# EAGLE library part SOC_RK3568 (library !GPLIB_ACTIVE)
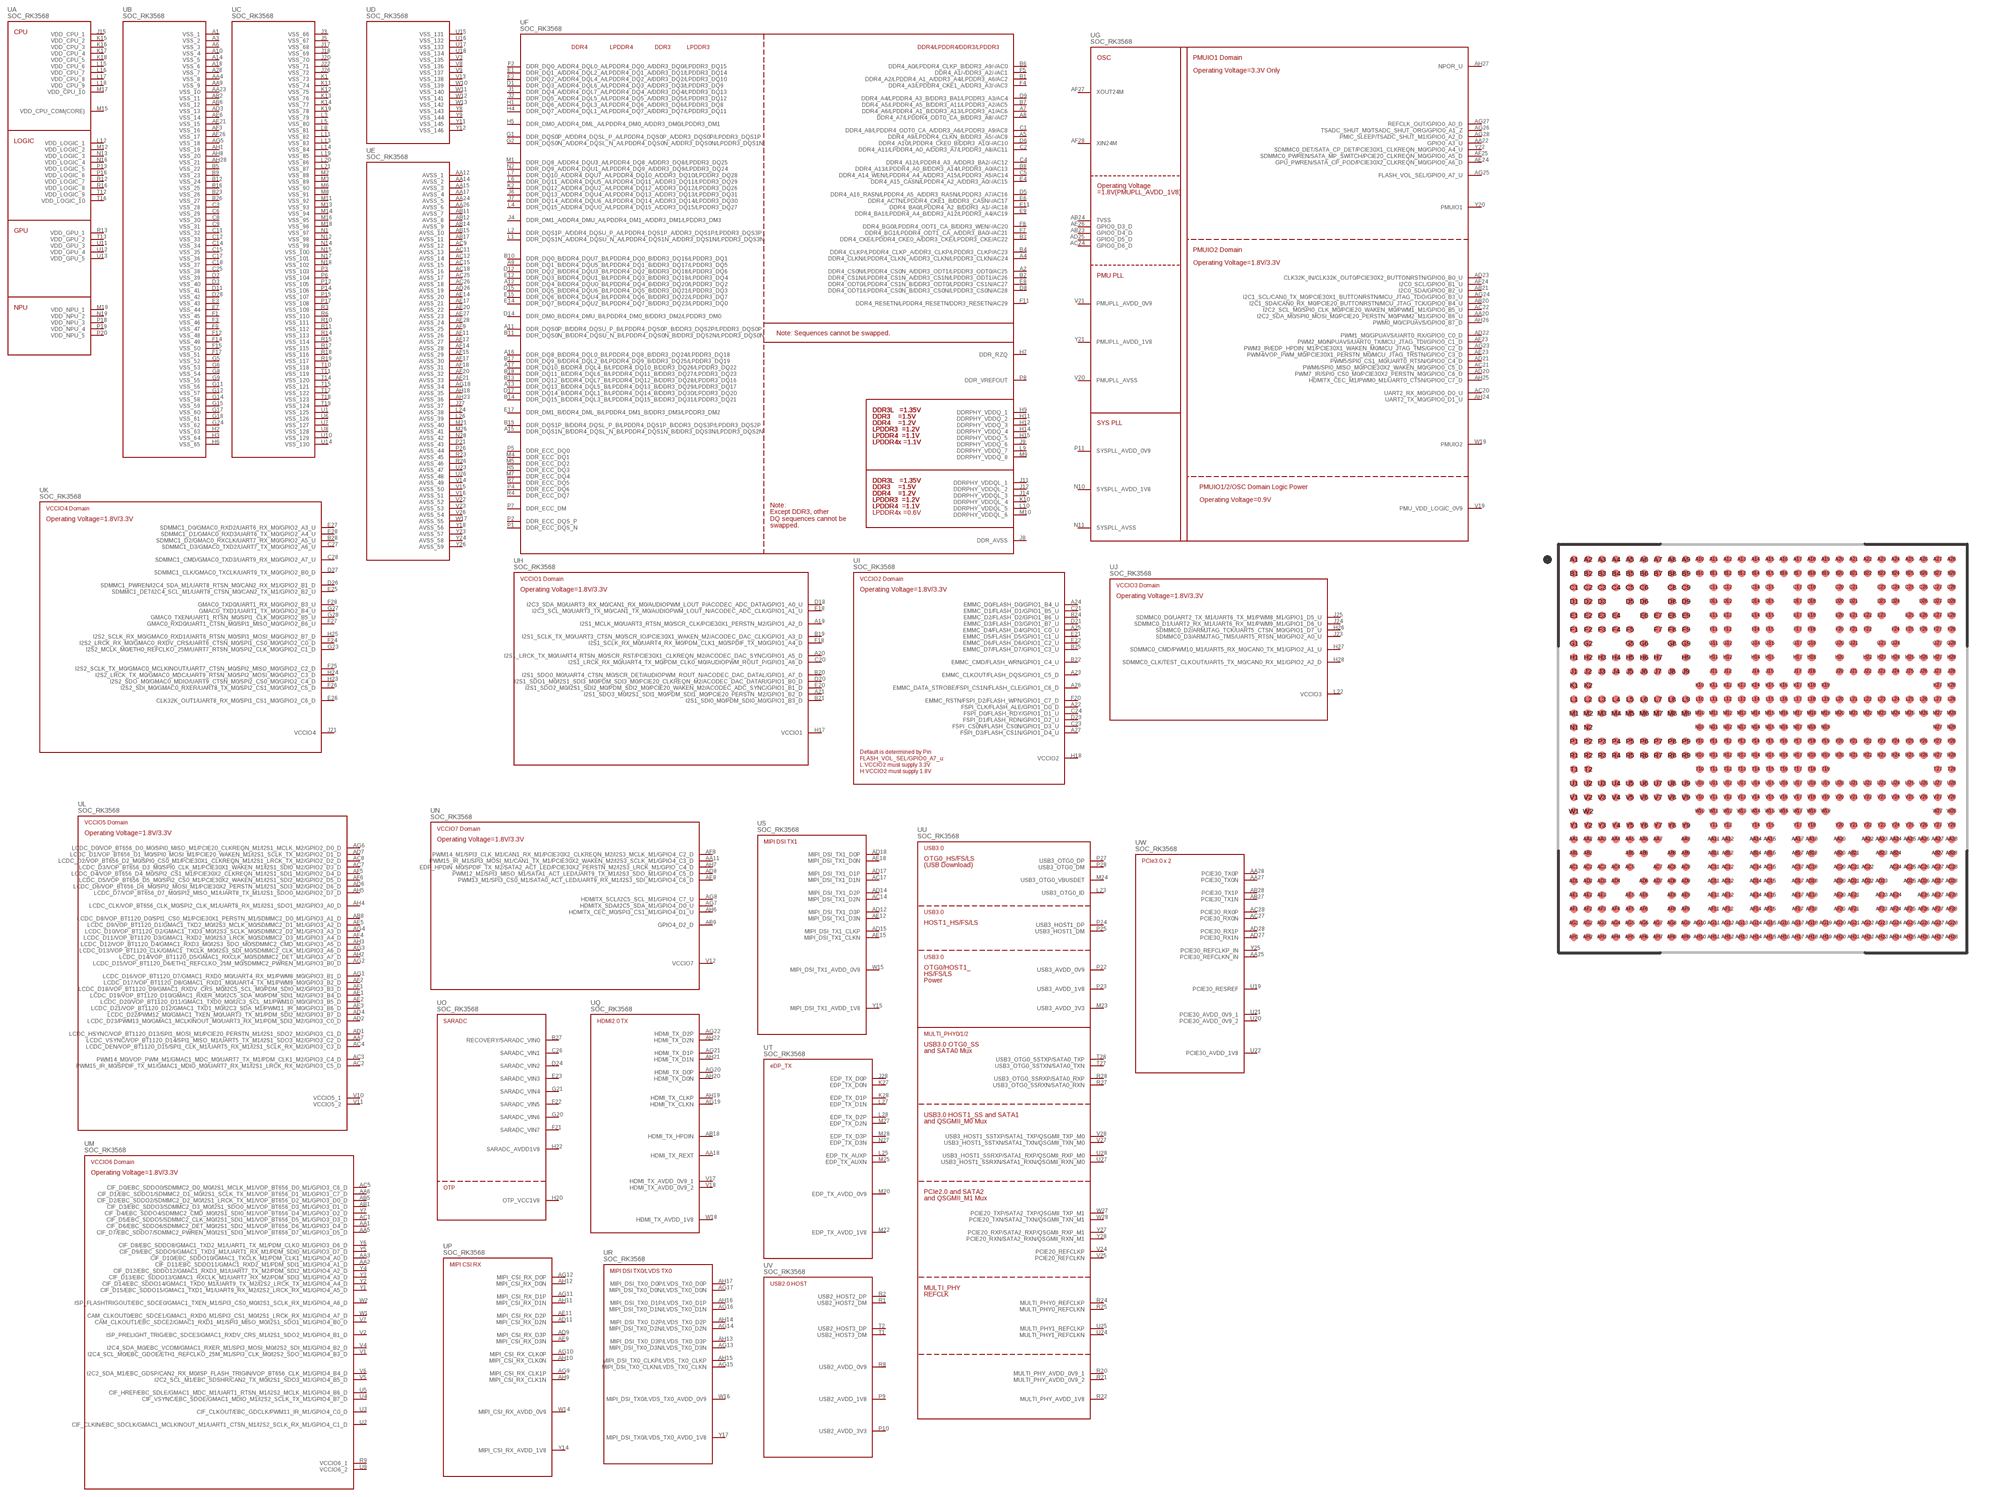
[diagram p128: symbol with the pads of BGA636C65P28X28_1900X1900X168; footprint BGA636C65P28X28_1900X1900X168]

Designator prefix U; gates A=RK3568-A B=RK3568-B C=RK3568-C D=RK3568-D E=RK3568-E F=RK3568-F G=RK3568-G H=RK3568-H I=RK3568-I J=RK3568-J L=RK3568-L M=RK3568-M N=RK3568-N O=RK3568-O P=RK3568-P Q=RK3568-Q R=RK3568-R S=RK3568-S T=RK3568-T U=RK3568-U V=RK3568-V W=RK3568-W K=RK3568-K

## SOC_RK3568_RK3568  [BGA636C65P28X28_1900X1900X168]
A1  B:VSS_1  pwr
A2  F:DDR4_CS0N/LPDDR4_CS0N_A/DDR3_ODT1/LPDDR3_ODT0/AC25
A3  B:VSS_2  pwr
A4  F:DDR4_CLKN/LPDDR4_CLKN_A/DDR3_CLKN/LPDDR3_CLKN/AC24
A5  F:DDR4_A9/LPDDR4_CLKN_B/DDR3_A5/-/AC9
A6  B:VSS_3  pwr
A7  F:DDR4_A6/LPDDR4_A1_B/DDR3_A13/LPDDR3_A1/AC6
A8  F:DDR4_A7/LPDDR4_ODT0_CA_B/DDR3_A8/-/AC7
A9  F:DDR_DQ1_B/DDR4_DQU5_B/LPDDR4_DQ1_B/DDR3_DQ17/LPDDR3_DQ5
A10  B:VSS_4  pwr
A11  F:DDR_DQS0P_B/DDR4_DQSU_P_B/LPDDR4_DQS0P_B/DDR3_DQS2P/LPDDR3_DQS0P
A12  F:DDR_DQ4_B/DDR4_DQU0_B/LPDDR4_DQ4_B/DDR3_DQ20/LPDDR3_DQ2
A13  F:DDR_DQ13_B/DDR4_DQL5_B/LPDDR4_DQ13_B/DDR3_DQ29/LPDDR3_DQ17
A14  B:VSS_5  pwr
A15  F:DDR_DQS1N_B/DDR4_DQSL_N_B/LPDDR4_DQS1N_B/DDR3_DQS3N/LPDDR3_DQS2N
A16  F:DDR_DQ8_B/DDR4_DQL0_B/LPDDR4_DQ8_B/DDR3_DQ24/LPDDR3_DQ18
A17  F:DDR_DQ10_B/DDR4_DQL4_B/LPDDR4_DQ10_B/DDR3_DQ26/LPDDR3_DQ22
A18  B:VSS_6  pwr
A19  H:I2S1_MCLK_M0/UART3_RTSN_M0/SCR_CLK/PCIE30X1_PERSTN_M2/GPIO1_A2_D
A20  H:I2S1_LRCK_TX_M0/UART4_RTSN_M0/SCR_RST/PCIE30X1_CLKREQN_M2/ACODEC_DAC_SYNC/GPIO1_A5_D
A21  H:I2S1_SDO3_M0/I2S1_SDI1_M0/PDM_SDI1_M0/PCIE20_PERSTN_M2/GPIO1_B2_D
A22  I:FSPI_CLK/FLASH_ALE/GPIO1_D0_D
A23  I:EMMC_CLKOUT/FLASH_DQS/GPIO1_C5_D
A24  I:EMMC_D0/FLASH_D0/GPIO1_B4_U
A25  I:EMMC_D4/FLASH_D4/GPIO1_C0_U
A26  I:EMMC_DATA_STROBE/FSPI_CS1N/FLASH_CLE/GPIO1_C6_D
A27  I:FSPI_D3/FLASH_CS1N/GPIO1_D4_U
A28  B:VSS_7  pwr
AA1  M:CIF_D6/EBC_SDDO6/SDMMC2_DET_M0/I2S1_SDI2_M1/VOP_BT656_D6_M1/GPIO3_D4_D
AA2  M:CIF_D11/EBC_SDDO11/GMAC1_RXD2_M1/PDM_SDI1_M1/GPIO4_A1_D
AA3  M:CIF_D10/EBC_SDDO10/GMAC1_TXCLK_M1/PDM_CLK1_M1/GPIO4_A0_D
AA4  B:VSS_8  pwr
AA5  M:CIF_D7/EBC_SDDO7/SDMMC2_PWREN_M0/I2S1_SDI3_M1/VOP_BT656_D7_M1/GPIO3_D5_D
AA6  M:CIF_D1/EBC_SDDO1/SDMMC2_D1_M0/I2S1_SCLK_TX_M1/VOP_BT656_D1_M1/GPIO3_C7_D
AA7  L:LCDC_VSYNC/VOP_BT1120_D14/SPI1_MISO_M1/UART5_TX_M1/I2S1_SDO3_M2/GPIO3_C2_D
AA9  B:VSS_9  pwr
AA11  N:PWM15_IR_M1/SPI3_MOSI_M1/CAN1_TX_M1/PCIE30X2_WAKEN_M2/I2S3_SCLK_M1/GPIO4_C3_D
AA12  E:AVSS_1  pwr
AA14  E:AVSS_2  pwr
AA15  E:AVSS_3  pwr
AA17  E:AVSS_4  pwr
AA18  Q:HDMI_TX_REXT
AA20  G:I2C2_SDA_M0/SPI0_MOSI_M0/PCIE20_PERSTN_M0/PWM2_M1/GPIO0_B6_U
AA22  G:GPIO0_A3_U
AA23  B:VSS_10  pwr
AA24  E:AVSS_5  pwr
AA25  W:PCIE30_REFCLKN_IN
AA26  E:AVSS_6  pwr
AA27  W:PCIE30_TX0N
AA28  W:PCIE30_TX0P
AB1  M:CIF_D3/EBC_SDDO3/SDMMC2_D3_M0/I2S1_SDO0_M1/VOP_BT656_D3_M1/GPIO3_D1_D
AB2  B:VSS_11  pwr
AB5  M:CIF_D2/EBC_SDDO2/SDMMC2_D2_M0/I2S1_LRCK_TX_M1/VOP_BT656_D2_M1/GPIO3_D0_D
AB6  B:VSS_12  pwr
AB8  L:LCDC_D8/VOP_BT1120_D0/SPI1_CS0_M1/PCIE30X1_PERSTN_M1/SDMMC2_D0_M1/GPIO3_A1_D
AB9  N:GPIO4_D2_D
AB11  E:AVSS_7  pwr
AB12  E:AVSS_8  pwr
AB14  E:AVSS_9  pwr
AB15  E:AVSS_10  pwr
AB17  E:AVSS_11  pwr
AB18  Q:HDMI_TX_HPDIN
AB20  G:I2C1_SDA/CAN0_RX_M0/PCIE20_BUTTONRSTN/MCU_JTAG_TCK/GPIO0_B4_U
AB21  G:I2C0_SDA/GPIO0_B2_U
AB23  G:GPIO0_D4_D
AB24  G:TVSS  pwr
AB27  W:PCIE30_TX1N
AB28  W:PCIE30_TX1P
AC1  M:CIF_D5/EBC_SDDO5/SDMMC2_CLK_M0/I2S1_SDI1_M1/VOP_BT656_D5_M1/GPIO3_D3_D
AC2  L:PWM15_IR_M0/SPDIF_TX_M1/GMAC1_MDIO_M0/UART7_RX_M1/I2S1_LRCK_RX_M2/GPIO3_C5_D
AC3  L:PWM14_M0/VOP_PWM_M1/GMAC1_MDC_M0/UART7_TX_M1/PDM_CLK1_M2/GPIO3_C4_D
AC4  L:LCDC_DEN/VOP_BT1120_D15/SPI1_CLK_M1/UART5_RX_M1/I2S1_SCLK_RX_M2/GPIO3_C3_D
AC5  M:CIF_D0/EBC_SDDO0/SDMMC2_D0_M0/I2S1_MCLK_M1/VOP_BT656_D0_M1/GPIO3_C6_D
AC7  L:LCDC_D3/VOP_BT656_D3_M0/SPI0_CLK_M1/PCIE30X1_WAKEN_M1/I2S1_SDI0_M2/GPIO2_D3_D
AC8  L:LCDC_D2/VOP_BT656_D2_M0/SPI0_CS0_M1/PCIE30X1_CLKREQN_M1/I2S1_LRCK_TX_M2/GPIO2_D2_D
AC9  E:AVSS_12  pwr
AC11  E:AVSS_13  pwr
AC12  E:AVSS_14  pwr
AC14  S:MIPI_DSI_TX1_D2N
AC15  E:AVSS_15  pwr
AC17  S:MIPI_DSI_TX1_D1N
AC18  E:AVSS_16  pwr
AC20  G:UART2_RX_M0/GPIO0_D0_U
AC21  G:PWM6/SPI0_MISO_M0/PCIE30X2_WAKEN_M0/GPIO0_C5_D
AC22  G:I2C2_SCL_M0/SPI0_CLK_M0/PCIE20_WAKEN_M0/PWM1_M1/GPIO0_B5_U
AC24  G:GPIO0_D6_D
AC25  E:AVSS_17  pwr
AC26  E:AVSS_18  pwr
AC27  W:PCIE30_RX0N
AC28  W:PCIE30_RX0P
AD1  L:LCDC_HSYNC/VOP_BT1120_D13/SPI1_MOSI_M1/PCIE20_PERSTN_M1/I2S1_SDO2_M2/GPIO3_C1_D
AD2  L:LCDC_D23/PWM13_M0/GMAC1_MCLKINOUT_M0/UART3_RX_M1/PDM_SDI3_M2/GPIO3_C0_D
AD3  B:VSS_13  pwr
AD4  L:LCDC_D22/PWM12_M0/GMAC1_TXEN_M0/UART3_TX_M1/PDM_SDI2_M2/GPIO3_B7_D
AD6  L:LCDC_D6/VOP_BT656_D6_M0/SPI2_MOSI_M1/PCIE30X2_PERSTN_M1/I2S1_SDI3_M2/GPIO2_D6_D
AD7  L:LCDC_D1/VOP_BT656_D1_M0/SPI0_MOSI_M1/PCIE20_WAKEN_M1/I2S1_SCLK_TX_M2/GPIO2_D1_D
AD8  N:PWM12_M1/SPI3_MISO_M1/SATA1_ACT_LED/UART9_TX_M1/I2S3_SDO_M1/GPIO4_C5_D
AD9  P:MIPI_CSI_RX_D3P
AD11  P:MIPI_CSI_RX_D2N
AD12  S:MIPI_DSI_TX1_D3P
AD14  S:MIPI_DSI_TX1_D2P
AD15  S:MIPI_DSI_TX1_CLKP
AD17  S:MIPI_DSI_TX1_D1P
AD18  S:MIPI_DSI_TX1_D0P
AD20  G:PWM7_IR/SPI0_CS0_M0/PCIE30X2_PERSTN_M0/GPIO0_C6_D
AD21  G:PWM5/SPI0_CS1_M0/UART0_RTSN/GPIO0_C4_D
AD22  G:PWM1_M0/GPUAVS/UART0_RX/GPIO0_C0_D
AD23  G:CLK32K_IN/CLK32K_OUT0/PCIE30X2_BUTTONRSTN/GPIO0_B0_U
AD25  G:GPIO0_D5_D
AD26  E:AVSS_19  pwr
AD27  W:PCIE30_RX1N
AD28  W:PCIE30_RX1P
AE1  L:LCDC_D19/VOP_BT1120_D10/GMAC1_RXER_M0/I2C5_SDA_M0/PDM_SDI1_M2/GPIO3_B4_D
AE2  L:LCDC_D20/VOP_BT1120_D11/GMAC1_TXD0_M0/I2C3_SCL_M1/PWM10_M0/GPIO3_B5_D
AE3  L:LCDC_D21/VOP_BT1120_D12/GMAC1_TXD1_M0/I2C3_SDA_M1/PWM11_IR_M0/GPIO3_B6_D
AE5  L:LCDC_D9/VOP_BT1120_D1/GMAC1_TXD2_M0/I2S3_MCLK_M0/SDMMC2_D1_M1/GPIO3_A2_D
AE6  B:VSS_14  pwr
AE8  N:PWM13_M1/SPI3_CS0_M1/SATA0_ACT_LED/UART9_RX_M1/I2S3_SDI_M1/GPIO4_C6_D
AE9  P:MIPI_CSI_RX_D3N
AE11  P:MIPI_CSI_RX_D2P
AE12  S:MIPI_DSI_TX1_D3N
AE14  E:AVSS_20  pwr
AE15  S:MIPI_DSI_TX1_CLKN
AE17  E:AVSS_21  pwr
AE18  S:MIPI_DSI_TX1_D0N
AE20  E:AVSS_22  pwr
AE21  B:VSS_15  pwr
AE23  G:PWM4/VOP_PWM_M0/PCIE30X1_PERSTN_M0/MCU_JTAG_TRSTN/GPIO0_C3_D
AE24  G:GPU_PWREN/SATA_CP_POD/PCIE30X2_CLKREQN_M0/GPIO0_A6_D
AE26  G:GPIO0_D3_D
AE27  E:AVSS_23  pwr
AE28  E:AVSS_24  pwr
AF1  L:LCDC_D18/VOP_BT1120_D9/GMAC1_RXDV_CRS_M0/I2C5_SCL_M0/PDM_SDI0_M2/GPIO3_B3_D
AF2  L:LCDC_D17/VOP_BT1120_D8/GMAC1_RXD1_M0/UART4_TX_M1/PWM9_M0/GPIO3_B2_D
AF3  B:VSS_16  pwr
AF4  L:LCDC_D11/VOP_BT1120_D3/GMAC1_RXD2_M0/I2S3_LRCK_M0/SDMMC2_D3_M1/GPIO3_A4_D
AF5  L:LCDC_D4/VOP_BT656_D4_M0/SPI2_CS1_M1/PCIE30X2_CLKREQN_M1/I2S1_SDI1_M2/GPIO2_D4_D
AF6  L:LCDC_D5/VOP_BT656_D5_M0/SPI2_CS0_M1/PCIE30X2_WAKEN_M1/I2S1_SDI2_M2/GPIO2_D5_D
AF8  N:PWM14_M1/SPI3_CLK_M1/CAN1_RX_M1/PCIE30X2_CLKREQN_M2/I2S3_MCLK_M1/GPIO4_C2_D
AF9  E:AVSS_25  pwr
AF11  E:AVSS_26  pwr
AF12  E:AVSS_27  pwr
AF14  E:AVSS_28  pwr
AF15  E:AVSS_29  pwr
AF17  E:AVSS_30  pwr
AF18  E:AVSS_31  pwr
AF20  E:AVSS_32  pwr
AF21  E:AVSS_33  pwr
AF23  G:PWM2_M0/NPUAVS/UART0_TX/MCU_JTAG_TDI/GPIO0_C1_D
AF24  G:I2C0_SCL/GPIO0_B1_U
AF25  G:SDMMC0_PWREN/SATA_MP_SWITCH/PCIE20_CLKREQN_M0/GPIO0_A5_D
AF26  B:VSS_17  pwr
AF27  G:XOUT24M
AF28  G:XIN24M
AG1  L:LCDC_D16/VOP_BT1120_D7/GMAC1_RXD0_M0/UART4_RX_M1/PWM8_M0/GPIO3_B1_D
AG2  L:LCDC_D15/VOP_BT1120_D6/ETH1_REFCLKO_25M_M0/SDMMC2_PWREN_M1/GPIO3_B0_D
AG3  L:LCDC_D13/VOP_BT1120_CLK/GMAC1_TXCLK_M0/I2S3_SDI_M0/SDMMC2_CLK_M1/GPIO3_A6_D
AG4  L:LCDC_D10/VOP_BT1120_D2/GMAC1_TXD3_M0/I2S3_SCLK_M0/SDMMC2_D2_M1/GPIO3_A3_D
AG5  B:VSS_18  pwr
AG6  L:LCDC_D0/VOP_BT656_D0_M0/SPI0_MISO_M1/PCIE20_CLKREQN_M1/I2S1_MCLK_M2/GPIO2_D0_D
AG7  N:HDMITX_SDA/I2C5_SDA_M1/GPIO4_D0_U
AG8  N:HDMITX_SCL/I2C5_SCL_M1/GPIO4_C7_U
AG9  P:MIPI_CSI_RX_CLK1P
AG10  P:MIPI_CSI_RX_CLK0P
AG11  P:MIPI_CSI_RX_D1P
AG12  P:MIPI_CSI_RX_D0P
AG13  R:MIPI_DSI_TX0_D3N/LVDS_TX0_D3N
AG14  R:MIPI_DSI_TX0_D2N/LVDS_TX0_D2N
AG15  R:MIPI_DSI_TX0_CLKN/LVDS_TX0_CLKN
AG16  R:MIPI_DSI_TX0_D1N/LVDS_TX0_D1N
AG17  R:MIPI_DSI_TX0_D0N/LVDS_TX0_D0N
AG18  E:AVSS_34  pwr
AG19  Q:HDMI_TX_CLKN
AG20  Q:HDMI_TX_D0P
AG21  Q:HDMI_TX_D1P
AG22  Q:HDMI_TX_D2P
AG23  G:PWM3_IR/EDP_HPDIN_M1/PCIE30X1_WAKEN_M0/MCU_JTAG_TMS/GPIO0_C2_D
AG24  G:I2C1_SCL/CAN0_TX_M0/PCIE30X1_BUTTONRSTN/MCU_JTAG_TDO/GPIO0_B3_U
AG25  G:FLASH_VOL_SEL/GPIO0_A7_U
AG26  G:TSADC_SHUT_M0/TSADC_SHUT_ORG/GPIO0_A1_Z
AG27  G:REFCLK_OUT/GPIO0_A0_D
AG28  G:PMIC_SLEEP/TSADC_SHUT_M1/GPIO0_A2_D
AH1  B:VSS_19  pwr
AH2  L:LCDC_D14/VOP_BT1120_D5/GMAC1_RXCLK_M0/SDMMC2_DET_M1/GPIO3_A7_D
AH3  L:LCDC_D12/VOP_BT1120_D4/GMAC1_RXD3_M0/I2S3_SDO_M0/SDMMC2_CMD_M1/GPIO3_A5_D
AH4  L:LCDC_CLK/VOP_BT656_CLK_M0/SPI2_CLK_M1/UART8_RX_M1/I2S1_SDO1_M2/GPIO3_A0_D
AH5  L:LCDC_D7/VOP_BT656_D7_M0/SPI2_MISO_M1/UART8_TX_M1/I2S1_SDO0_M2/GPIO2_D7_D
AH6  N:HDMITX_CEC_M0/SPI3_CS1_M1/GPIO4_D1_U
AH7  N:EDP_HPDIN_M0/SPDIF_TX_M2/SATA2_ACT_LED/PCIE30X2_PERSTN_M2/I2S3_LRCK_M1/GPIO_C4_D
AH8  B:VSS_20  pwr
AH9  P:MIPI_CSI_RX_CLK1N
AH10  P:MIPI_CSI_RX_CLK0N
AH11  P:MIPI_CSI_RX_D1N
AH12  P:MIPI_CSI_RX_D0N
AH13  R:MIPI_DSI_TX0_D3P/LVDS_TX0_D3P
AH14  R:MIPI_DSI_TX0_D2P/LVDS_TX0_D2P
AH15  R:MIPI_DSI_TX0_CLKP/LVDS_TX0_CLKP
AH16  R:MIPI_DSI_TX0_D1P/LVDS_TX0_D1P
AH17  R:MIPI_DSI_TX0_D0P/LVDS_TX0_D0P
AH18  E:AVSS_35  pwr
AH19  Q:HDMI_TX_CLKP
AH20  Q:HDMI_TX_D0N
AH21  Q:HDMI_TX_D1N
AH22  Q:HDMI_TX_D2N
AH23  E:AVSS_36  pwr
AH24  G:UART2_TX_M0/GPIO0_D1_U
AH25  G:HDMITX_CEC_M1/PWM0_M1/UART0_CTSN/GPIO0_C7_D
AH26  G:PWM0_M0/CPUAVS/GPIO0_B7_D
AH27  G:NPOR_U
AH28  B:VSS_21  pwr
B1  F:DDR4_A2/LPDDR4_A1_A/DDR3_A4/LPDDR3_A6/AC2
B2  F:DDR4_CS1N/LPDDR4_CS1N_A/DDR3_CS1N/LPDDR3_ODT1/AC26
B3  F:DDR4_CKE/LPDDR4_CKE0_A/DDR3_CKE/LPDDR3_CKE/AC22
B4  F:DDR4_CLKP/LPDDR4_CLKP_A/DDR3_CLKP/LPDDR3_CLKP/AC23
B5  B:VSS_22  pwr
B6  F:DDR4_A0/LPDDR4_CLKP_B/DDR3_A9/-/AC0
B7  F:DDR4_A5/LPDDR4_A5_B/DDR3_A11/LPDDR3_A2/AC5
B8  F:DDR4_A13/LPDDR4_A0_B/DDR3_A14/LPDDR3_A0/AC13
B9  B:VSS_23  pwr
B10  F:DDR_DQ0_B/DDR4_DQU7_B/LPDDR4_DQ0_B/DDR3_DQ16/LPDDR3_DQ1
B11  F:DDR_DQS0N_B/DDR4_DQSU_N_B/LPDDR4_DQS0N_B/DDR3_DQS2N/LPDDR3_DQS0N
B12  B:VSS_24  pwr
B13  F:DDR_DQ12_B/DDR4_DQL7_B/LPDDR4_DQ12_B/DDR3_DQ28/LPDDR3_DQ16
B14  F:DDR_DQ15_B/DDR4_DQL3_B/LPDDR4_DQ15_B/DDR3_DQ31/LPDDR3_DQ21
B15  F:DDR_DQS1P_B/DDR4_DQSL_P_B/LPDDR4_DQS1P_B/DDR3_DQS3P/LPDDR3_DQS2P
B16  B:VSS_25  pwr
B17  F:DDR_DQ9_B/DDR4_DQL2_B/LPDDR4_DQ9_B/DDR3_DQ25/LPDDR3_DQ19
B18  F:DDR_DQ11_B/DDR4_DQL6_B/LPDDR4_DQ11_B/DDR3_DQ27/LPDDR3_DQ23
B19  H:I2S1_SCLK_TX_M0/UART3_CTSN_M0/SCR_IO/PCIE30X1_WAKEN_M2/ACODEC_DAC_CLK/GPIO1_A3_D
B20  H:I2S1_SDO0_M0/UART4_CTSN_M0/SCR_DET/AUDIOPWM_ROUT_N/ACODEC_DAC_DATAL/GPIO1_A7_D
B21  H:I2S1_SDI0_M0/PDM_SDI0_M0/GPIO1_B3_D
B22  I:EMMC_CMD/FLASH_WRN/GPIO1_C4_U
B23  B:VSS_26  pwr
B24  I:EMMC_D2/FLASH_D2/GPIO1_B6_U
B25  I:EMMC_D7/FLASH_D7/GPIO1_C3_U
B26  B:VSS_27  pwr
B27  O:RECOVERY/SARADC_VIN0
B28  K:SDMMC1_D2/GMAC0_RXCLK/UART7_RX_M0/GPIO2_A5_U
C1  F:DDR4_A8/LPDDR4_ODT0_CA_A/DDR3_A6/LPDDR3_A9/AC8
C2  F:DDR4_A11/LPDDR4_A0_A/DDR3_A7/LPDDR3_A8/AC11
C3  B:VSS_28  pwr
C4  F:DDR4_A12/LPDDR4_A3_A/DDR3_BA2/-/AC12
C5  F:DDR4_A14_WEN/LPDDR4_A4_A/DDR3_A15/LPDDR3_A5/AC14
C6  B:VSS_29  pwr
C8  B:VSS_30  pwr
C9  B:VSS_31  pwr
C11  B:VSS_32  pwr
C12  B:VSS_33  pwr
C14  B:VSS_34  pwr
C15  B:VSS_35  pwr
C17  B:VSS_36  pwr
C18  B:VSS_37  pwr
C20  H:I2S1_LRCK_RX_M0/UART4_TX_M0/PDM_CLK0_M0/AUDIOPWM_ROUT_P/GPIO1_A6_D
C21  I:EMMC_D1/FLASH_D1/GPIO1_B5_U
C23  I:FSPI_CS0N/FLASH_CS0N/GPIO1_D3_U
C24  I:FSPI_D0/FLASH_RDY/GPIO1_D1_U
C25  B:VSS_38  pwr
C26  O:SARADC_VIN1
C27  K:SDMMC1_D3/GMAC0_TXD2/UART7_TX_M0/GPIO2_A6_U
C28  K:SDMMC1_CMD/GMAC0_TXD3/UART9_RX_M0/GPIO2_A7_U
D1  F:DDR_DQ3_A/DDR4_DQL6_A/LPDDR4_DQ3_A/DDR3_DQ3/LPDDR3_DQ9
D2  B:VSS_39  pwr
D3  B:VSS_40  pwr
D5  F:DDR4_A16_RASN/LPDDR4_A5_A/DDR3_RASN/LPDDR3_A7/AC16
D6  F:DDR4_A10/LPDDR4_CKE0_B/DDR3_A10/-/AC10
D8  F:DDR4_ODT1/LPDDR4_CS0N_B/DDR3_CS0N/LPDDR3_CS0N/AC28
D9  F:DDR4_A4/LPDDR4_A3_B/DDR3_BA1/LPDDR3_A3/AC4
D11  B:VSS_41  pwr
D12  F:DDR_DQ2_B/DDR4_DQU3_B/LPDDR4_DQ2_B/DDR3_DQ18/LPDDR3_DQ6
D14  F:DDR_DM0_B/DDR4_DMU_B/LPDDR4_DM0_B/DDR3_DM2/LPDDR3_DM0
D15  F:DDR_DQ5_B/DDR4_DQU6_B/LPDDR4_DQ5_B/DDR3_DQ21/LPDDR3_DQ3
D17  F:DDR_DQ14_B/DDR4_DQL1_B/LPDDR4_DQ14_B/DDR3_DQ30/LPDDR3_DQ20
D18  H:I2C3_SDA_M0/UART3_RX_M0/CAN1_RX_M0/AUDIOPWM_LOUT_P/ACODEC_ADC_DATA/GPIO1_A0_U
D20  H:I2S1_SDO1_M0/I2S1_SDI3_M0/PDM_SDI3_M0/PCIE20_CLKREQN_M2/ACODEC_DAC_DATAR/GPIO1_B0_D
D21  I:EMMC_D3/FLASH_D3/GPIO1_B7_U
D23  I:FSPI_D1/FLASH_RDN/GPIO1_D2_U
D24  O:SARADC_VIN2
D26  K:SDMMC1_PWREN/I2C4_SDA_M1/UART8_RTSN_M0/CAN2_RX_M1/GPIO2_B1_D
D27  K:SDMMC1_CLK/GMAC0_TXCLK/UART9_TX_M0/GPIO2_B0_D
D28  B:VSS_42  pwr
E1  F:DDR_DQ1_A/DDR4_DQL2_A/LPDDR4_DQ1_A/DDR3_DQ1/LPDDR3_DQ14
E2  F:DDR_DQ2_A/DDR4_DQL4_A/LPDDR4_DQ2_A/DDR3_DQ2/LPDDR3_DQ10
E3  B:VSS_43  pwr
E4  F:DDR4_A15_CASN/LPDDR4_A2_A/DDR3_A0/-/AC15
E6  F:DDR4_ACTN/LPDDR4_CKE1_B/DDR3_CASN/-/AC17
E7  B:VSS_44  pwr
E8  F:DDR4_ODT0/LPDDR4_CS1N_B/DDR3_ODT0/LPDDR3_CS1N/AC27
E9  F:DDR4_BA1/LPDDR4_A4_B/DDR3_A12/LPDDR3_A4/AC19
E11  F:DDR4_BA0/LPDDR4_A2_B/DDR3_A1/-/AC18
E12  F:DDR_DQ3_B/DDR4_DQU1_B/LPDDR4_DQ3_B/DDR3_DQ19/LPDDR3_DQ4
E14  F:DDR_DQ7_B/DDR4_DQU2_B/LPDDR4_DQ7_B/DDR3_DQ23/LPDDR3_DQ0
E15  F:DDR_DQ6_B/DDR4_DQU4_B/LPDDR4_DQ6_B/DDR3_DQ22/LPDDR3_DQ7
E17  F:DDR_DM1_B/DDR4_DML_B/LPDDR4_DM1_B/DDR3_DM3/LPDDR3_DM2
E18  H:I2C3_SCL_M0/UART3_TX_M0/CAN1_TX_M0/AUDIOPWM_LOUT_N/ACODEC_ADC_CLK/GPIO1_A1_U
E20  H:I2S1_SDO2_M0/I2S1_SDI2_M0/PDM_SDI2_M0/PCIE20_WAKEN_M2/ACODEC_ADC_SYNC/GPIO1_B1_D
E21  I:EMMC_D5/FLASH_D5/GPIO1_C1_U
E22  I:EMMC_D6/FLASH_D6/GPIO1_C2_U
E23  O:SARADC_VIN3
E25  K:SDMMC1_DET/I2C4_SCL_M1/UART8_CTSN_M0/CAN2_TX_M1/GPIO2_B2_U
E26  K:CLK32K_OUT1/UART8_RX_M0/SPI1_CS1_M0/GPIO2_C6_D
E27  K:SDMMC1_D0/GMAC0_RXD2/UART6_RX_M0/GPIO2_A3_U
E28  K:SDMMC1_D1/GMAC0_RXD3/UART6_TX_M0/GPIO2_A4_U
F1  B:VSS_45  pwr
F2  F:DDR_DQ0_A/DDR4_DQL0_A/LPDDR4_DQ0_A/DDR3_DQ0/LPDDR3_DQ15
F3  B:VSS_46  pwr
F4  F:DDR4_A3/LPDDR4_CKE1_A/DDR3_A3/-/AC3
F5  F:DDR4_A1/-/DDR3_A2/-/AC1
F7  F:DDR4_BG1/LPDDR4_ODT1_CA_A/DDR3_BA0/-/AC21
F8  F:DDR4_BG0/LPDDR4_ODT1_CA_B/DDR3_WEN/-/AC20
F9  B:VSS_47  pwr
F11  F:DDR4_RESETN/LPDDR4_RESETN/DDR3_RESETN/AC29
F12  B:VSS_48  pwr
F14  B:VSS_49  pwr
F15  B:VSS_50  pwr
F17  B:VSS_51  pwr
F18  H:I2S1_SCLK_RX_M0/UART4_RX_M0/PDM_CLK1_M0/SPDIF_TX_M0/GPIO1_A4_D
F20  I:EMMC_RSTN/FSPI_D2/FLASH_WPN/GPIO1_C7_D
F21  O:SARADC_VIN7
F22  O:SARADC_VIN5
F24  K:I2S2_LRCK_RX_M0/GMAC0_RXDV_CRS/UART6_CTSN_M0/SPI1_CS0_M0/GPIO2_C0_D
F25  K:I2S2_SCLK_TX_M0/GMAC0_MCLKINOUT/UART7_CTSN_M0/SPI2_MISO_M0/GPIO2_C2_D
F26  K:I2S2_SDI_M0/GMAC0_RXER/UART8_TX_M0/SPI2_CS1_M0/GPIO2_C5_D
F27  K:GMAC0_RXD0/UART1_CTSN_M0/SPI1_MISO_M0/GPIO2_B6_U
F28  K:GMAC0_TXD0/UART1_RX_M0/GPIO2_B3_U
G1  F:DDR_DQS0P_A/DDR4_DQSL_P_A/LPDDR4_DQS0P_A/DDR3_DQS0P/LPDDR3_DQS1P
G2  F:DDR_DQS0N_A/DDR4_DQSL_N_A/LPDDR4_DQS0N_A/DDR3_DQS0N/LPDDR3_DQS1N
G5  B:VSS_52  pwr
G6  B:VSS_53  pwr
G8  B:VSS_54  pwr
G9  B:VSS_55  pwr
G11  B:VSS_56  pwr
G12  B:VSS_57  pwr
G14  B:VSS_58  pwr
G15  B:VSS_59  pwr
G17  B:VSS_60  pwr
G18  B:VSS_61  pwr
G20  O:SARADC_VIN6
G21  O:SARADC_VIN4
G23  K:I2S2_MCLK_M0/ETH0_REFCLKO_25M/UART7_RTSN_M0/SPI2_CLK_M0/GPIO2_C1_D
G24  B:VSS_62  pwr
G27  K:GMAC0_TXD1/UART1_TX_M0/GPIO2_B4_U
G28  K:GMAC0_TXEN/UART1_RTSN_M0/SPI1_CLK_M0/GPIO2_B5_U
H1  F:DDR_DQ6_A/DDR4_DQL3_A/LPDDR4_DQ6_A/DDR3_DQ6/LPDDR3_DQ8
H2  B:VSS_63  pwr
H3  B:VSS_64  pwr
H4  F:DDR_DQ7_A/DDR4_DQL1_A/LPDDR4_DQ7_A/DDR3_DQ7/LPDDR3_DQ11
H5  F:DDR_DM0_A/DDR4_DML_A/LPDDR4_DM0_A/DDR3_DM0/LPDDR3_DM1
H6  B:VSS_65  pwr
H7  F:DDR_RZQ
H9  F:DDRPHY_VDDQ_1
H11  F:DDRPHY_VDDQ_2
H12  F:DDRPHY_VDDQ_3
H14  F:DDRPHY_VDDQ_4
H15  F:DDRPHY_VDDQ_5
H17  H:VCCIO1
H18  I:VCCIO2
H20  O:OTP_VCC1V8
H22  O:SARADC_AVDD1V8
H23  K:I2S2_SDO_M0/GMAC0_MDIO/UART9_CTSN_M0/SPI2_CS0_M0/GPIO2_C4_D
H24  K:I2S2_LRCK_TX_M0/GMAC0_MDC/UART9_RTSN_M0/SPI2_MOSI_M0/GPIO2_C3_D
H25  K:I2S2_SCLK_RX_M0/GMAC0_RXD1/UART6_RTSN_M0/SPI1_MOSI_M0/GPIO2_B7_D
H26  J:SDMMC0_D2/ARMJTAG_TCK/UART5_CTSN_M0/GPIO1_D7_U
H27  J:SDMMC0_CMD/PWM10_M1/UART5_RX_M0/CAN0_TX_M1/GPIO2_A1_U
H28  J:SDMMC0_CLK/TEST_CLKOUT/UART5_TX_M0/CAN0_RX_M1/GPIO2_A2_D
J1  F:DDR_DQ4_A/DDR4_DQL7_A/LPDDR4_DQ4_A/DDR3_DQ4/LPDDR3_DQ13
J2  F:DDR_DQ5_A/DDR4_DQL5_A/LPDDR4_DQ5_A/DDR3_DQ5/LPDDR3_DQ12
J3  C:VSS_66  pwr
J4  F:DDR_DM1_A/DDR4_DMU_A/LPDDR4_DM1_A/DDR3_DM1/LPDDR3_DM3
J5  C:VSS_67  pwr
J6  F:DDR_DQ13_A/DDR4_DQU4_A/LPDDR4_DQ13_A/DDR3_DQ13/LPDDR3_DQ31
J7  F:DDR_DQ14_A/DDR4_DQU6_A/LPDDR4_DQ14_A/DDR3_DQ14/LPDDR3_DQ30
J8  F:DDR_AVSS
J9  F:DDRPHY_VDDQ_6
J11  F:DDRPHY_VDDQL_1
J12  F:DDRPHY_VDDQL_2
J14  F:DDRPHY_VDDQL_3
J15  A:VDD_CPU_1  pwr
J17  C:VSS_68  pwr
J18  C:VSS_69  pwr
J20  C:VSS_70  pwr
J21  K:VCCIO4
J22  C:VSS_71  pwr
J23  J:SDMMC0_D3/ARMJTAG_TMS/UART5_RTSN_M0/GPIO2_A0_U
J24  J:SDMMC0_D1/UART2_RX_M1/UART6_RX_M1/PWM9_M1/GPIO1_D6_U
J25  J:SDMMC0_D0/UART2_TX_M1/UART6_TX_M1/PWM8_M1/GPIO1_D5_U
J26  C:VSS_72  pwr
J27  E:AVSS_37  pwr
J28  T:EDP_TX_D0P
K1  C:VSS_73  pwr
K2  F:DDR_DQ12_A/DDR4_DQU2_A/LPDDR4_DQ12_A/DDR3_DQ12/LPDDR3_DQ26
K10  F:DDRPHY_VDDQL_4
K11  C:VSS_74  pwr
K12  C:VSS_75  pwr
K13  C:VSS_76  pwr
K14  C:VSS_77  pwr
K15  A:VDD_CPU_2  pwr
K16  A:VDD_CPU_3  pwr
K17  A:VDD_CPU_4  pwr
K18  A:VDD_CPU_5  pwr
K19  C:VSS_78  pwr
K27  T:EDP_TX_D0N
K28  T:EDP_TX_D1P
L1  F:DDR_DQS1N_A/DDR4_DQSU_N_A/LPDDR4_DQS1N_A/DDR3_DQS1N/LPDDR3_DQS3N
L2  F:DDR_DQS1P_A/DDR4_DQSU_P_A/LPDDR4_DQS1P_A/DDR3_DQS1P/LPDDR3_DQS3P
L3  C:VSS_79  pwr
L4  F:DDR_DQ15_A/DDR4_DQU0_A/LPDDR4_DQ15_A/DDR3_DQ15/LPDDR3_DQ27
L5  C:VSS_80  pwr
L6  F:DDR_DQ11_A/DDR4_DQU5_A/LPDDR4_DQ11_A/DDR3_DQ11/LPDDR3_DQ29
L7  F:DDR_DQ10_A/DDR4_DQU7_A/LPDDR4_DQ10_A/DDR3_DQ10/LPDDR3_DQ28
L8  C:VSS_81  pwr
L9  F:DDRPHY_VDDQ_7
L10  F:DDRPHY_VDDQL_5
L11  C:VSS_82  pwr
L12  A:VDD_LOGIC_1  pwr
L13  C:VSS_83  pwr
L14  C:VSS_84  pwr
L15  A:VDD_CPU_6  pwr
L16  A:VDD_CPU_7  pwr
L17  A:VDD_CPU_8  pwr
L18  A:VDD_CPU_9  pwr
L19  C:VSS_85  pwr
L20  C:VSS_86  pwr
L21  C:VSS_87  pwr
L22  J:VCCIO3
L23  U:USB3_OTG0_ID
L24  E:AVSS_38  pwr
L25  T:EDP_TX_AUXP
L26  E:AVSS_39  pwr
L27  T:EDP_TX_D1N
L28  T:EDP_TX_D2P
M1  F:DDR_DQ8_A/DDR4_DQU3_A/LPDDR4_DQ8_A/DDR3_DQ8/LPDDR3_DQ25
M2  C:VSS_88  pwr
M3  C:VSS_89  pwr
M4  F:DDR_ECC_DQ1
M5  F:DDR_ECC_DQ2
M6  C:VSS_90  pwr
M7  F:DDR_ECC_DQ4
M8  C:VSS_91  pwr
M9  F:DDRPHY_VDDQ_8
M10  F:DDRPHY_VDDQL_6
M11  C:VSS_92  pwr
M12  A:VDD_LOGIC_2  pwr
M13  C:VSS_93  pwr
M14  C:VSS_94  pwr
M15  A:VDD_CPU_COM(CORE)  pwr
M16  C:VSS_95  pwr
M17  A:VDD_CPU_10  pwr
M18  C:VSS_96  pwr
M19  A:VDD_NPU_1  pwr
M20  T:EDP_TX_AVDD_0V9
M21  E:AVSS_40  pwr
M22  T:EDP_TX_AVDD_1V8
M23  U:USB3_AVDD_3V3
M24  U:USB3_OTG0_VBUSDET
M25  T:EDP_TX_AUXN
M26  E:AVSS_41  pwr
M27  T:EDP_TX_D2N
M28  T:EDP_TX_D3P
N1  C:VSS_97  pwr
N2  F:DDR_DQ9_A/DDR4_DQU1_A/LPDDR4_DQ9_A/DDR3_DQ9/LPDDR3_DQ24
N10  G:SYSPLL_AVDD_1V8  pwr
N11  G:SYSPLL_AVSS  pwr
N12  C:VSS_98  pwr
N13  A:VDD_LOGIC_3  pwr
N14  C:VSS_99  pwr
N15  C:VSS_100  pwr
N16  A:VDD_LOGIC_4  pwr
N17  C:VSS_101  pwr
N18  C:VSS_102  pwr
N19  A:VDD_NPU_2  pwr
N27  T:EDP_TX_D3N
N28  E:AVSS_42  pwr
P1  F:DDR_ECC_DQS_N
P2  F:DDR_ECC_DQS_P
P3  C:VSS_103  pwr
P4  F:DDR_ECC_DQ6
P5  F:DDR_ECC_DQ0
P6  C:VSS_104  pwr
P7  F:DDR_ECC_DM
P8  F:DDR_VREFOUT
P9  V:USB2_AVDD_1V8
P10  V:USB2_AVDD_3V3
P11  G:SYSPLL_AVDD_0V9  pwr
P12  C:VSS_105  pwr
P13  A:VDD_LOGIC_5  pwr
P14  C:VSS_106  pwr
P15  C:VSS_107  pwr
P16  A:VDD_LOGIC_6  pwr
P17  C:VSS_108  pwr
P18  A:VDD_NPU_3  pwr
P19  A:VDD_NPU_4  pwr
P20  A:VDD_NPU_5  pwr
P21  E:AVSS_43  pwr
P22  U:USB3_AVDD_0V9
P23  U:USB3_AVDD_1V8
P24  U:USB3_HOST1_DP
P25  U:USB3_HOST1_DM
P26  E:AVSS_44  pwr
P27  U:USB3_OTG0_DP
P28  U:USB3_OTG0_DM
R1  V:USB2_HOST2_DM
R2  V:USB2_HOST2_DP
R3  C:VSS_109  pwr
R4  F:DDR_ECC_DQ7
R5  F:DDR_ECC_DQ3
R6  C:VSS_110  pwr
R7  F:DDR_ECC_DQ5
R8  V:USB2_AVDD_0V9
R9  M:VCCIO6_1
R10  C:VSS_111  pwr
R11  C:VSS_112  pwr
R12  A:VDD_LOGIC_7  pwr
R13  A:VDD_GPU_1  pwr
R14  C:VSS_113  pwr
R15  C:VSS_114  pwr
R16  A:VDD_LOGIC_8  pwr
R17  C:VSS_115  pwr
R18  C:VSS_116  pwr
R19  C:VSS_117  pwr
R20  U:MULTI_PHY_AVDD_0V9_1
R21  U:MULTI_PHY_AVDD_0V9_2
R22  U:MULTI_PHY_AVDD_1V8
R23  E:AVSS_45  pwr
R24  U:MULTI_PHY0_REFCLKP
R25  U:MULTI_PHY0_REFCLKN
R26  E:AVSS_46  pwr
R27  U:USB3_OTG0_SSRXN/SATA0_RXN
R28  U:USB3_OTG0_SSRXP/SATA0_RXP
T1  V:USB2_HOST3_DM
T2  V:USB2_HOST3_DP
T10  C:VSS_118  pwr
T11  C:VSS_119  pwr
T12  A:VDD_LOGIC_9  pwr
T13  A:VDD_GPU_2  pwr
T14  C:VSS_120  pwr
T15  C:VSS_121  pwr
T16  A:VDD_LOGIC_10  pwr
T17  C:VSS_122  pwr
T18  C:VSS_123  pwr
T19  C:VSS_124  pwr
T27  U:USB3_OTG0_SSTXN/SATA0_TXN
T28  U:USB3_OTG0_SSTXP/SATA0_TXP
U1  C:VSS_125  pwr
U2  M:CIF_CLKIN/EBC_SDCLK/GMAC1_MCLKINOUT_M1/UART1_CTSN_M1/I2S2_SCLK_RX_M1/GPIO4_C1_D
U3  M:CIF_CLKOUT/EBC_GDCLK/PWM11_IR_M1/GPIO4_C0_D
U4  M:CIF_VSYNC/EBC_SDOE/GMAC1_MDIO_M1/I2S2_SCLK_TX_M1/GPIO4_B7_D
U5  M:CIF_HREF/EBC_SDLE/GMAC1_MDC_M1/UART1_RTSN_M1/I2S2_MCLK_M1/GPIO4_B6_D
U6  C:VSS_126  pwr
U7  C:VSS_127  pwr
U8  C:VSS_128  pwr
U9  M:VCCIO6_2
U10  C:VSS_129  pwr
U11  A:VDD_GPU_3  pwr
U12  A:VDD_GPU_4  pwr
U13  A:VDD_GPU_5  pwr
U14  C:VSS_130  pwr
U15  D:VSS_131  pwr
U16  D:VSS_132  pwr
U17  D:VSS_133  pwr
U18  D:VSS_134  pwr
U19  W:PCIE30_RESREF
U20  W:PCIE30_AVDD_0V9_2
U21  W:PCIE30_AVDD_0V9_1
U22  W:PCIE30_AVDD_1V8
U23  E:AVSS_47  pwr
U24  U:MULTI_PHY1_REFCLKN
U25  U:MULTI_PHY1_REFCLKP
U26  E:AVSS_48  pwr
U27  U:USB3_HOST1_SSRXN/SATA1_RXN/QSGMII_RXN_M0
U28  U:USB3_HOST1_SSRXP/SATA1_RXP/QSGMII_RXP_M0
V1  M:I2C4_SCL_M0/EBC_GDOE/ETH1_REFCLKO_25M_M1/SPI3_CLK_M0/I2S2_SDO_M1/GPIO4_B3_D
V2  M:ISP_PRELIGHT_TRIG/EBC_SDCE3/GMAC1_RXDV_CRS_M1/I2S1_SDO2_M1/GPIO4_B1_D
V3  D:VSS_135  pwr
V4  M:I2C4_SDA_M0/EBC_VCOM/GMAC1_RXER_M1/SPI3_MOSI_M0/I2S2_SDI_M1/GPIO4_B2_D
V5  M:I2C2_SCL_M1/EBC_SDSHR/CAN2_TX_M0/I2S1_SDO3_M1/GPIO4_B5_D
V6  M:I2C2_SDA_M1/EBC_GDSP/CAN2_RX_M0/ISP_FLASH_TRIGIN/VOP_BT656_CLK_M1/GPIO4_B4_D
V7  M:CAM_CLKOUT1/EBC_SDCE2/GMAC1_RXD1_M1/SPI3_MISO_M0/I2S1_SDO1_M1/GPIO4_B0_D
V8  D:VSS_136  pwr
V9  D:VSS_137  pwr
V10  L:VCCIO5_1
V11  L:VCCIO5_2
V12  N:VCCIO7
V13  D:VSS_138  pwr
V14  E:AVSS_49  pwr
V15  E:AVSS_50  pwr
V16  E:AVSS_51  pwr
V17  Q:HDMI_TX_AVDD_0V9_1
V18  Q:HDMI_TX_AVDD_0V9_2
V19  G:PMU_VDD_LOGIC_0V9
V20  G:PMUPLL_AVSS  pwr
V21  G:PMUPLL_AVDD_0V9  pwr
V22  E:AVSS_52  pwr
V23  E:AVSS_53  pwr
V24  U:PCIE20_REFCLKP
V25  U:PCIE20_REFCLKN
V26  E:AVSS_54  pwr
V27  U:USB3_HOST1_SSTXN/SATA1_TXN/QSGMII_TXN_M0
V28  U:USB3_HOST1_SSTXP/SATA1_TXP/QSGMII_TXP_M0
W1  M:CAM_CLKOUT0/EBC_SDCE1/GMAC1_RXD0_M1/SPI3_CS1_M0/I2S1_LRCK_RX_M1/GPIO4_A7_D
W2  M:ISP_FLASHTRIGOUT/EBC_SDCE0/GMAC1_TXEN_M1/SPI3_CS0_M0/I2S1_SCLK_RX_M1/GPIO4_A6_D
W10  D:VSS_139  pwr
W11  D:VSS_140  pwr
W12  D:VSS_141  pwr
W13  D:VSS_142  pwr
W14  P:MIPI_CSI_RX_AVDD_0V9
W15  S:MIPI_DSI_TX1_AVDD_0V9
W16  R:MIPI_DSI_TX0/LVDS_TX0_AVDD_0V9
W17  E:AVSS_55  pwr
W18  Q:HDMI_TX_AVDD_1V8
W19  G:PMUIO2
W27  U:PCIE20_TXP/SATA2_TXP/QSGMII_TXP_M1
W28  U:PCIE20_TXN/SATA2_TXN/QSGMII_TXN_M1
Y1  M:CIF_D15/EBC_SDDO15/GMAC1_TXD1_M1/UART9_RX_M2/I2S2_LRCK_RX_M1/GPIO4_A5_D
Y2  M:CIF_D14/EBC_SDDO14/GMAC1_TXD0_M1/UART9_TX_M2/I2S2_LRCK_TX_M1/GPIO4_A4_D
Y3  M:CIF_D13/EBC_SDDO13/GMAC1_RXCLK_M1/UART7_RX_M2/PDM_SDI3_M1/GPIO4_A3_D
Y4  M:CIF_D12/EBC_SDDO12/GMAC1_RXD3_M1/UART7_TX_M2/PDM_SDI2_M1/GPIO4_A2_D
Y5  M:CIF_D9/EBC_SDDO9/GMAC1_TXD3_M1/UART1_RX_M1/PDM_SDI0_M1/GPIO3_D7_D
Y6  M:CIF_D8/EBC_SDDO8/GMAC1_TXD2_M1/UART1_TX_M1/PDM_CLK0_M1/GPIO3_D6_D
Y7  M:CIF_D4/EBC_SDDO4/SDMMC2_CMD_M0/I2S1_SDI0_M1/VOP_BT656_D4_M1/GPIO3_D2_D
Y8  D:VSS_143  pwr
Y9  D:VSS_144  pwr
Y11  D:VSS_145  pwr
Y12  D:VSS_146  pwr
Y14  P:MIPI_CSI_RX_AVDD_1V8
Y15  S:MIPI_DSI_TX1_AVDD_1V8
Y17  R:MIPI_DSI_TX0/LVDS_TX0_AVDD_1V8
Y18  E:AVSS_56  pwr
Y20  G:PMUIO1
Y21  G:PMUPLL_AVDD_1V8  pwr
Y22  G:SDMMC0_DET/SATA_CP_DET/PCIE30X1_CLKREQN_M0/GPIO0_A4_U
Y23  E:AVSS_57  pwr
Y24  E:AVSS_58  pwr
Y25  W:PCIE30_REFCLKP_IN
Y26  E:AVSS_59  pwr
Y27  U:PCIE20_RXP/SATA2_RXP/QSGMII_RXP_M1
Y28  U:PCIE20_RXN/SATA2_RXN/QSGMII_RXN_M1

## Footprint BGA636C65P28X28_1900X1900X168 (pad centres in mm)
smd 0.34 x 0.34: A1 -8.775,8.775; A2 -8.125,8.775; A3 -7.475,8.775; A4 -6.825,8.775; A5 -6.175,8.775; A6 -5.525,8.775; A7 -4.875,8.775; A8 -4.225,8.775; A9 -3.575,8.775; A10 -2.925,8.775; A11 -2.275,8.775; A12 -1.625,8.775; A13 -0.975,8.775; A14 -0.325,8.775; A15 0.325,8.775; A16 0.975,8.775; A17 1.625,8.775; A18 2.275,8.775; A19 2.925,8.775; A20 3.575,8.775; A21 4.225,8.775; A22 4.875,8.775; A23 5.525,8.775; A24 6.175,8.775; A25 6.825,8.775; A26 7.475,8.775; A27 8.125,8.775; A28 8.775,8.775; AA1 -8.775,-4.225; AA2 -8.125,-4.225; AA3 -7.475,-4.225; AA4 -6.825,-4.225; AA5 -6.175,-4.225; AA6 -5.525,-4.225; AA7 -4.875,-4.225; AA9 -3.575,-4.225; AA11 -2.275,-4.225; AA12 -1.625,-4.225; AA14 -0.325,-4.225; AA15 0.325,-4.225; AA17 1.625,-4.225; AA18 2.275,-4.225; AA20 3.575,-4.225; AA22 4.875,-4.225; AA23 5.525,-4.225; AA24 6.175,-4.225; AA25 6.825,-4.225; AA26 7.475,-4.225; AA27 8.125,-4.225; AA28 8.775,-4.225; AB1 -8.775,-4.875; AB2 -8.125,-4.875; AB5 -6.175,-4.875; AB6 -5.525,-4.875; AB8 -4.225,-4.875; AB9 -3.575,-4.875; AB11 -2.275,-4.875; AB12 -1.625,-4.875; AB14 -0.325,-4.875; AB15 0.325,-4.875; AB17 1.625,-4.875; AB18 2.275,-4.875; AB20 3.575,-4.875; AB21 4.225,-4.875; AB23 5.525,-4.875; AB24 6.175,-4.875; AB27 8.125,-4.875; AB28 8.775,-4.875; AC1 -8.775,-5.525; AC2 -8.125,-5.525; AC3 -7.475,-5.525; AC4 -6.825,-5.525; AC5 -6.175,-5.525; AC7 -4.875,-5.525; AC8 -4.225,-5.525; AC9 -3.575,-5.525; AC11 -2.275,-5.525; AC12 -1.625,-5.525; AC14 -0.325,-5.525; AC15 0.325,-5.525; AC17 1.625,-5.525; AC18 2.275,-5.525; AC20 3.575,-5.525; AC21 4.225,-5.525; AC22 4.875,-5.525; AC24 6.175,-5.525; AC25 6.825,-5.525; AC26 7.475,-5.525; AC27 8.125,-5.525; AC28 8.775,-5.525; AD1 -8.775,-6.175; AD2 -8.125,-6.175; AD3 -7.475,-6.175; AD4 -6.825,-6.175; AD6 -5.525,-6.175; AD7 -4.875,-6.175; AD8 -4.225,-6.175; AD9 -3.575,-6.175; AD11 -2.275,-6.175; AD12 -1.625,-6.175; AD14 -0.325,-6.175; AD15 0.325,-6.175; AD17 1.625,-6.175; AD18 2.275,-6.175; AD20 3.575,-6.175; AD21 4.225,-6.175; AD22 4.875,-6.175; AD23 5.525,-6.175; AD25 6.825,-6.175; AD26 7.475,-6.175; AD27 8.125,-6.175; AD28 8.775,-6.175; AE1 -8.775,-6.825; AE2 -8.125,-6.825; AE3 -7.475,-6.825; AE5 -6.175,-6.825; AE6 -5.525,-6.825; AE8 -4.225,-6.825; AE9 -3.575,-6.825; AE11 -2.275,-6.825; AE12 -1.625,-6.825; AE14 -0.325,-6.825; AE15 0.325,-6.825; AE17 1.625,-6.825; AE18 2.275,-6.825; AE20 3.575,-6.825; AE21 4.225,-6.825; AE23 5.525,-6.825; AE24 6.175,-6.825; AE26 7.475,-6.825; AE27 8.125,-6.825; AE28 8.775,-6.825; AF1 -8.775,-7.475; AF2 -8.125,-7.475; AF3 -7.475,-7.475; AF4 -6.825,-7.475; AF5 -6.175,-7.475; AF6 -5.525,-7.475; AF8 -4.225,-7.475; AF9 -3.575,-7.475; AF11 -2.275,-7.475; AF12 -1.625,-7.475; AF14 -0.325,-7.475; AF15 0.325,-7.475; AF17 1.625,-7.475; AF18 2.275,-7.475; AF20 3.575,-7.475; AF21 4.225,-7.475; AF23 5.525,-7.475; AF24 6.175,-7.475; AF25 6.825,-7.475; AF26 7.475,-7.475; AF27 8.125,-7.475; AF28 8.775,-7.475; AG1 -8.775,-8.125; AG2 -8.125,-8.125; AG3 -7.475,-8.125; AG4 -6.825,-8.125; AG5 -6.175,-8.125; AG6 -5.525,-8.125; AG7 -4.875,-8.125; AG8 -4.225,-8.125; AG9 -3.575,-8.125; AG10 -2.925,-8.125; AG11 -2.275,-8.125; AG12 -1.625,-8.125; AG13 -0.975,-8.125; AG14 -0.325,-8.125; AG15 0.325,-8.125; AG16 0.975,-8.125; AG17 1.625,-8.125; AG18 2.275,-8.125; AG19 2.925,-8.125; AG20 3.575,-8.125; AG21 4.225,-8.125; AG22 4.875,-8.125; AG23 5.525,-8.125; AG24 6.175,-8.125; AG25 6.825,-8.125; AG26 7.475,-8.125; AG27 8.125,-8.125; AG28 8.775,-8.125; AH1 -8.775,-8.775; AH2 -8.125,-8.775; AH3 -7.475,-8.775; AH4 -6.825,-8.775; AH5 -6.175,-8.775; AH6 -5.525,-8.775; AH7 -4.875,-8.775; AH8 -4.225,-8.775; AH9 -3.575,-8.775; AH10 -2.925,-8.775; AH11 -2.275,-8.775; AH12 -1.625,-8.775; AH13 -0.975,-8.775; AH14 -0.325,-8.775; AH15 0.325,-8.775; AH16 0.975,-8.775; AH17 1.625,-8.775; AH18 2.275,-8.775; AH19 2.925,-8.775; AH20 3.575,-8.775; AH21 4.225,-8.775; AH22 4.875,-8.775; AH23 5.525,-8.775; AH24 6.175,-8.775; AH25 6.825,-8.775; AH26 7.475,-8.775; AH27 8.125,-8.775; AH28 8.775,-8.775; B1 -8.775,8.125; B2 -8.125,8.125; B3 -7.475,8.125; B4 -6.825,8.125; B5 -6.175,8.125; B6 -5.525,8.125; B7 -4.875,8.125; B8 -4.225,8.125; B9 -3.575,8.125; B10 -2.925,8.125; B11 -2.275,8.125; B12 -1.625,8.125; B13 -0.975,8.125; B14 -0.325,8.125; B15 0.325,8.125; B16 0.975,8.125; B17 1.625,8.125; B18 2.275,8.125; B19 2.925,8.125; B20 3.575,8.125; B21 4.225,8.125; B22 4.875,8.125; B23 5.525,8.125; B24 6.175,8.125; B25 6.825,8.125; B26 7.475,8.125; B27 8.125,8.125; B28 8.775,8.125; C1 -8.775,7.475; C2 -8.125,7.475; C3 -7.475,7.475; C4 -6.825,7.475; C5 -6.175,7.475; C6 -5.525,7.475; C8 -4.225,7.475; C9 -3.575,7.475; C11 -2.275,7.475; C12 -1.625,7.475; C14 -0.325,7.475; C15 0.325,7.475; C17 1.625,7.475; C18 2.275,7.475; C20 3.575,7.475; C21 4.225,7.475; C23 5.525,7.475; C24 6.175,7.475; C25 6.825,7.475; C26 7.475,7.475; C27 8.125,7.475; C28 8.775,7.475; D1 -8.775,6.825; D2 -8.125,6.825; D3 -7.475,6.825; D5 -6.175,6.825; D6 -5.525,6.825; D8 -4.225,6.825; D9 -3.575,6.825; D11 -2.275,6.825; D12 -1.625,6.825; D14 -0.325,6.825; D15 0.325,6.825; D17 1.625,6.825; D18 2.275,6.825; D20 3.575,6.825; D21 4.225,6.825; D23 5.525,6.825; D24 6.175,6.825; D26 7.475,6.825; D27 8.125,6.825; D28 8.775,6.825; E1 -8.775,6.175; E2 -8.125,6.175; E3 -7.475,6.175; E4 -6.825,6.175; E6 -5.525,6.175; E7 -4.875,6.175; E8 -4.225,6.175; E9 -3.575,6.175; E11 -2.275,6.175; E12 -1.625,6.175; E14 -0.325,6.175; E15 0.325,6.175; E17 1.625,6.175; E18 2.275,6.175; E20 3.575,6.175; E21 4.225,6.175; E22 4.875,6.175; E23 5.525,6.175; E25 6.825,6.175; E26 7.475,6.175; E27 8.125,6.175; E28 8.775,6.175; F1 -8.775,5.525; F2 -8.125,5.525; F3 -7.475,5.525; F4 -6.825,5.525; F5 -6.175,5.525; F7 -4.875,5.525; F8 -4.225,5.525; F9 -3.575,5.525; F11 -2.275,5.525; F12 -1.625,5.525; F14 -0.325,5.525; F15 0.325,5.525; F17 1.625,5.525; F18 2.275,5.525; F20 3.575,5.525; F21 4.225,5.525; F22 4.875,5.525; F24 6.175,5.525; F25 6.825,5.525; F26 7.475,5.525; F27 8.125,5.525; F28 8.775,5.525; G1 -8.775,4.875; G2 -8.125,4.875; G5 -6.175,4.875; G6 -5.525,4.875; G8 -4.225,4.875; G9 -3.575,4.875; G11 -2.275,4.875; G12 -1.625,4.875; G14 -0.325,4.875; G15 0.325,4.875; G17 1.625,4.875; G18 2.275,4.875; G20 3.575,4.875; G21 4.225,4.875; G23 5.525,4.875; G24 6.175,4.875; G27 8.125,4.875; G28 8.775,4.875; H1 -8.775,4.225; H2 -8.125,4.225; H3 -7.475,4.225; H4 -6.825,4.225; H5 -6.175,4.225; H6 -5.525,4.225; H7 -4.875,4.225; H9 -3.575,4.225; H11 -2.275,4.225; H12 -1.625,4.225; H14 -0.325,4.225; H15 0.325,4.225; H17 1.625,4.225; H18 2.275,4.225; H20 3.575,4.225; H22 4.875,4.225; H23 5.525,4.225; H24 6.175,4.225; H25 6.825,4.225; H26 7.475,4.225; H27 8.125,4.225; H28 8.775,4.225; J1 -8.775,3.575; J2 -8.125,3.575; J3 -7.475,3.575; J4 -6.825,3.575; J5 -6.175,3.575; J6 -5.525,3.575; J7 -4.875,3.575; J8 -4.225,3.575; J9 -3.575,3.575; J11 -2.275,3.575; J12 -1.625,3.575; J14 -0.325,3.575; J15 0.325,3.575; J17 1.625,3.575; J18 2.275,3.575; J20 3.575,3.575; J21 4.225,3.575; J22 4.875,3.575; J23 5.525,3.575; J24 6.175,3.575; J25 6.825,3.575; J26 7.475,3.575; J27 8.125,3.575; J28 8.775,3.575; K1 -8.775,2.925; K2 -8.125,2.925; K10 -2.925,2.925; K11 -2.275,2.925; K12 -1.625,2.925; K13 -0.975,2.925; K14 -0.325,2.925; K15 0.325,2.925; K16 0.975,2.925; K17 1.625,2.925; K18 2.275,2.925; K19 2.925,2.925; K27 8.125,2.925; K28 8.775,2.925; L1 -8.775,2.275; L2 -8.125,2.275; L3 -7.475,2.275; L4 -6.825,2.275; L5 -6.175,2.275; L6 -5.525,2.275; L7 -4.875,2.275; L8 -4.225,2.275; L9 -3.575,2.275; L10 -2.925,2.275; L11 -2.275,2.275; L12 -1.625,2.275; L13 -0.975,2.275; L14 -0.325,2.275; L15 0.325,2.275; L16 0.975,2.275; L17 1.625,2.275; L18 2.275,2.275; L19 2.925,2.275; L20 3.575,2.275; L21 4.225,2.275; L22 4.875,2.275; L23 5.525,2.275; L24 6.175,2.275; L25 6.825,2.275; L26 7.475,2.275; L27 8.125,2.275; L28 8.775,2.275; M1 -8.775,1.625; M2 -8.125,1.625; M3 -7.475,1.625; M4 -6.825,1.625; M5 -6.175,1.625; M6 -5.525,1.625; M7 -4.875,1.625; M8 -4.225,1.625; M9 -3.575,1.625; M10 -2.925,1.625; M11 -2.275,1.625; M12 -1.625,1.625; M13 -0.975,1.625; M14 -0.325,1.625; M15 0.325,1.625; M16 0.975,1.625; M17 1.625,1.625; M18 2.275,1.625; M19 2.925,1.625; M20 3.575,1.625; M21 4.225,1.625; M22 4.875,1.625; M23 5.525,1.625; M24 6.175,1.625; M25 6.825,1.625; M26 7.475,1.625; M27 8.125,1.625; M28 8.775,1.625; N1 -8.775,0.975; N2 -8.125,0.975; N10 -2.925,0.975; N11 -2.275,0.975; N12 -1.625,0.975; N13 -0.975,0.975; N14 -0.325,0.975; N15 0.325,0.975; N16 0.975,0.975; N17 1.625,0.975; N18 2.275,0.975; N19 2.925,0.975; N27 8.125,0.975; N28 8.775,0.975; P1 -8.775,0.325; P2 -8.125,0.325; P3 -7.475,0.325; P4 -6.825,0.325; P5 -6.175,0.325; P6 -5.525,0.325; P7 -4.875,0.325; P8 -4.225,0.325; P9 -3.575,0.325; P10 -2.925,0.325; P11 -2.275,0.325; P12 -1.625,0.325; P13 -0.975,0.325; P14 -0.325,0.325; P15 0.325,0.325; P16 0.975,0.325; P17 1.625,0.325; P18 2.275,0.325; P19 2.925,0.325; P20 3.575,0.325; P21 4.225,0.325; P22 4.875,0.325; P23 5.525,0.325; P24 6.175,0.325; P25 6.825,0.325; P26 7.475,0.325; P27 8.125,0.325; P28 8.775,0.325; R1 -8.775,-0.325; R2 -8.125,-0.325; R3 -7.475,-0.325; R4 -6.825,-0.325; R5 -6.175,-0.325; R6 -5.525,-0.325; R7 -4.875,-0.325; R8 -4.225,-0.325; R9 -3.575,-0.325; R10 -2.925,-0.325; R11 -2.275,-0.325; R12 -1.625,-0.325; R13 -0.975,-0.325; R14 -0.325,-0.325; R15 0.325,-0.325; R16 0.975,-0.325; R17 1.625,-0.325; R18 2.275,-0.325; R19 2.925,-0.325; R20 3.575,-0.325; R21 4.225,-0.325; R22 4.875,-0.325; R23 5.525,-0.325; R24 6.175,-0.325; R25 6.825,-0.325; R26 7.475,-0.325; R27 8.125,-0.325; R28 8.775,-0.325; T1 -8.775,-0.975; T2 -8.125,-0.975; T10 -2.925,-0.975; T11 -2.275,-0.975; T12 -1.625,-0.975; T13 -0.975,-0.975; T14 -0.325,-0.975; T15 0.325,-0.975; T16 0.975,-0.975; T17 1.625,-0.975; T18 2.275,-0.975; T19 2.925,-0.975; T27 8.125,-0.975; T28 8.775,-0.975; U1 -8.775,-1.625; U2 -8.125,-1.625; U3 -7.475,-1.625; U4 -6.825,-1.625; U5 -6.175,-1.625; U6 -5.525,-1.625; U7 -4.875,-1.625; U8 -4.225,-1.625; U9 -3.575,-1.625; U10 -2.925,-1.625; U11 -2.275,-1.625; U12 -1.625,-1.625; U13 -0.975,-1.625; U14 -0.325,-1.625; U15 0.325,-1.625; U16 0.975,-1.625; U17 1.625,-1.625; U18 2.275,-1.625; U19 2.925,-1.625; U20 3.575,-1.625; U21 4.225,-1.625; U22 4.875,-1.625; U23 5.525,-1.625; U24 6.175,-1.625; U25 6.825,-1.625; U26 7.475,-1.625; U27 8.125,-1.625; U28 8.775,-1.625; V1 -8.775,-2.275; V2 -8.125,-2.275; V3 -7.475,-2.275; V4 -6.825,-2.275; V5 -6.175,-2.275; V6 -5.525,-2.275; V7 -4.875,-2.275; V8 -4.225,-2.275; V9 -3.575,-2.275; V10 -2.925,-2.275; V11 -2.275,-2.275; V12 -1.625,-2.275; V13 -0.975,-2.275; V14 -0.325,-2.275; V15 0.325,-2.275; V16 0.975,-2.275; V17 1.625,-2.275; V18 2.275,-2.275; V19 2.925,-2.275; V20 3.575,-2.275; V21 4.225,-2.275; V22 4.875,-2.275; V23 5.525,-2.275; V24 6.175,-2.275; V25 6.825,-2.275; V26 7.475,-2.275; V27 8.125,-2.275; V28 8.775,-2.275; W1 -8.775,-2.925; W2 -8.125,-2.925; W10 -2.925,-2.925; W11 -2.275,-2.925; W12 -1.625,-2.925; W13 -0.975,-2.925; W14 -0.325,-2.925; W15 0.325,-2.925; W16 0.975,-2.925; W17 1.625,-2.925; W18 2.275,-2.925; W19 2.925,-2.925; W27 8.125,-2.925; W28 8.775,-2.925; Y1 -8.775,-3.575; Y2 -8.125,-3.575; Y3 -7.475,-3.575; Y4 -6.825,-3.575; Y5 -6.175,-3.575; Y6 -5.525,-3.575; Y7 -4.875,-3.575; Y8 -4.225,-3.575; Y9 -3.575,-3.575; Y11 -2.275,-3.575; Y12 -1.625,-3.575; Y14 -0.325,-3.575; Y15 0.325,-3.575; Y17 1.625,-3.575; Y18 2.275,-3.575; Y20 3.575,-3.575; Y21 4.225,-3.575; Y22 4.875,-3.575; Y23 5.525,-3.575; Y24 6.175,-3.575; Y25 6.825,-3.575; Y26 7.475,-3.575; Y27 8.125,-3.575; Y28 8.775,-3.575